# EAGLE library part MICRF0XX (library dviid)
The MICRF002 is a single chip ASK/OOK (ON-OFF Keyed) RF receiver IC.
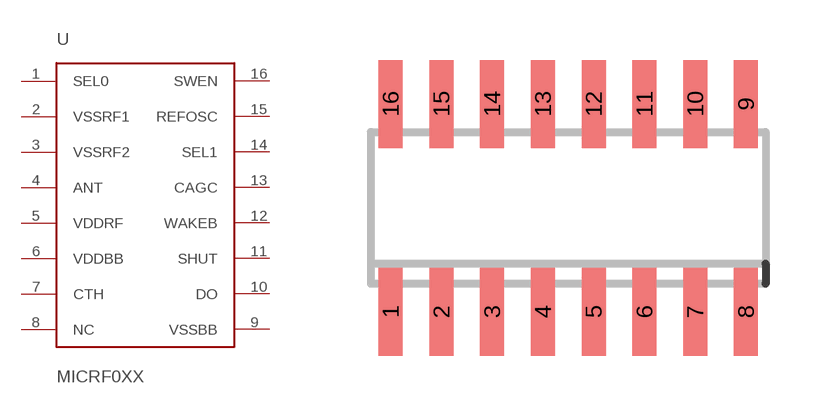
[diagram p7: symbol with the pads of SOIC16; footprint SOIC16]

Designator prefix -

## MICRF0XX  [SOIC16]
1  SEL0
2  VSSRF1
3  VSSRF2
4  ANT
5  VDDRF
6  VDDBB
7  CTH
8  NC
9  VSSBB
10  DO
11  SHUT
12  WAKEB
13  CAGC
14  SEL1
15  REFOSC
16  SWEN

## Footprint SOIC16 (pad centres in mm)
smd 0.6 x 2.2: 1 -4.445,-2.6; 2 -3.175,-2.6; 3 -1.905,-2.6; 4 -0.635,-2.6; 5 0.635,-2.6; 6 1.905,-2.6; 7 3.175,-2.6; 8 4.445,-2.6; 9 4.445,2.6; 10 3.175,2.6; 11 1.905,2.6; 12 0.635,2.6; 13 -0.635,2.6; 14 -1.905,2.6; 15 -3.175,2.6; 16 -4.445,2.6